# EAGLE library part SFW8R-2STE1LF (library FCI_By_element14_Batch_1)
FFC/FPC CONNECTOR, RECEPTACLE, 8POS 1ROW
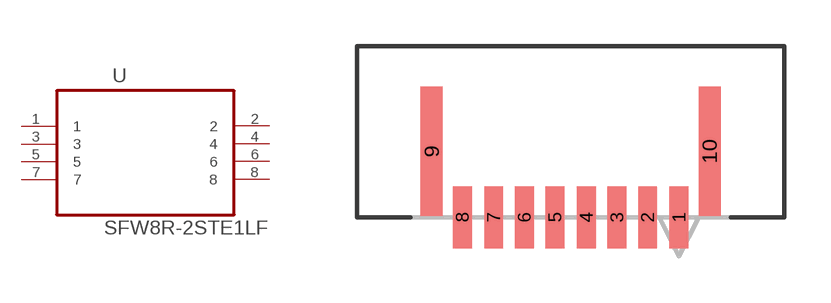
[diagram p79: symbol with the pads of FCI_SFW8R-2STE1LF; footprint FCI_SFW8R-2STE1LF]

Designator prefix U

## SFW8R-2STE1LF (MPN: SFW8R-2STE1LF; OC_FARNELL: 1835602; OC_NEWARK: 62K5649; PACKAGE: CONNECTOR-8POS; SUPPLIER: FCI)  [FCI_SFW8R-2STE1LF]
1  1  pas
2  2  pas
3  3  pas
4  4  pas
5  5  pas
6  6  pas
7  7  pas
8  8  pas

## Footprint FCI_SFW8R-2STE1LF (pad centres in mm)
smd 0.61 x 2.007: 1 3.505,2.743; 2 2.489,2.743; 3 1.499,2.743; 4 0.508,2.743; 5 -0.508,2.743; 6 -1.499,2.743; 7 -2.489,2.743; 8 -3.505,2.743
smd 0.711 x 4.191: 9 -4.496,4.877; 10 4.496,4.877